# Altium footprint library ROV_Voltage_Switch.PcbLib: 24 footprints (part 2 of 2)
Each footprint in its own frame and in the unit in brackets; x right, y up, seen from the top. Pads: shape width x height; smd on the part's side, far side on the other; paste and mask are expansions set on the pad; w line width, h text height; cw(c..) or ccw(c..) is an arc to the next point about the centre after c.
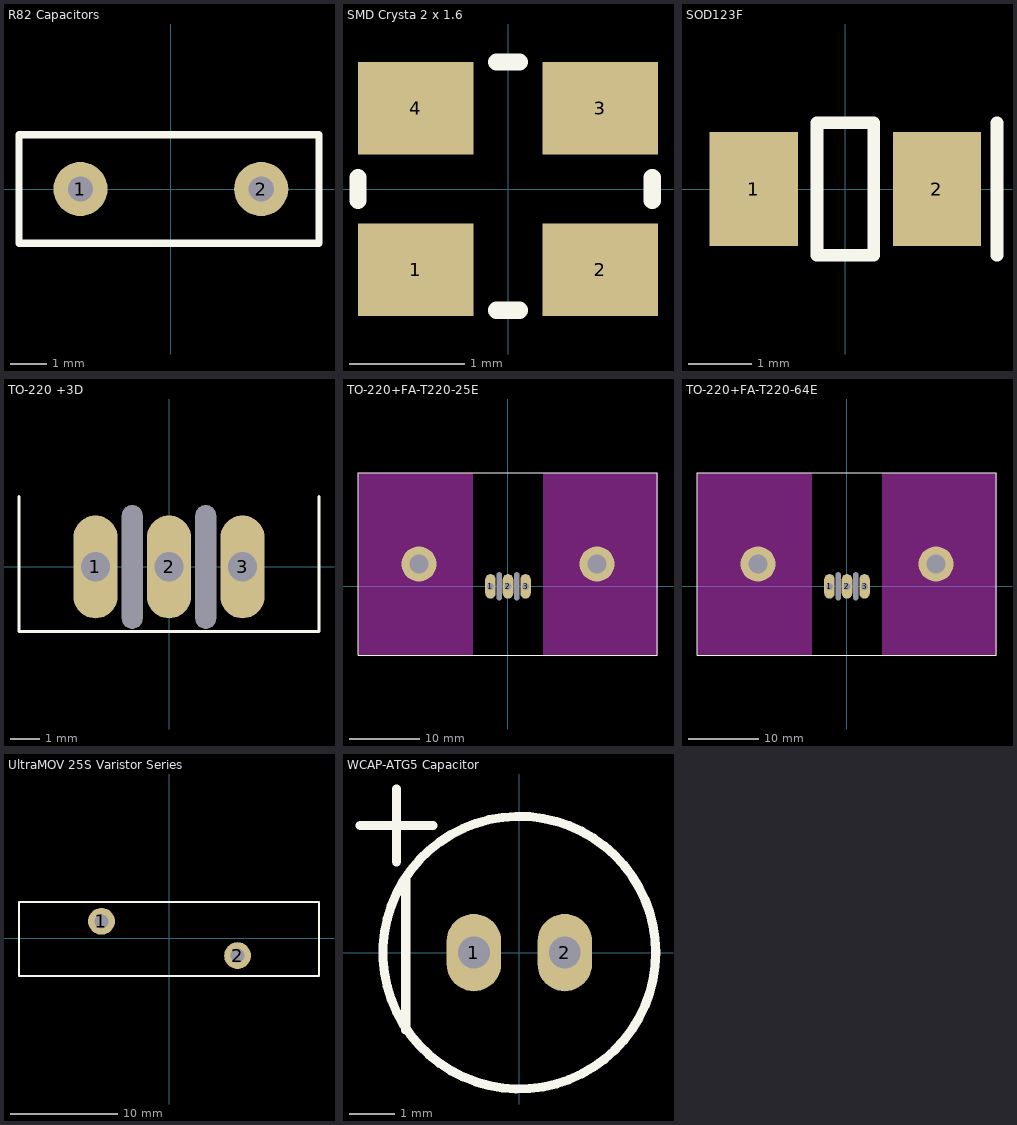
[diagram p1: the footprints below, top view; thin cyan lines are the x and y axes]

## R82 Capacitors [mm]
pads (2):
  round 1.5 hole 0.7: 1(-2.5,0) 2(2.5,0)
Top Overlay:
  lines w0.2: -4.2,-1.5 -4.2,1.5 4.1,1.5 4.1,-1.5 -4.2,-1.5
3D body: height 1.27, standoff 0, extent -3.6,-1.25 3.6,1.25

## SMD Crysta 2 x 1.6 [mm]
pads (4):
  rect 1x0.8 smd: 1(-0.8,-0.7) 2(0.8,-0.7) 3(0.8,0.7) 4(-0.8,0.7)
Top Overlay:
  lines w0.15: -1.3,-0.1 -1.3,0.1 ; -0.1,-1.05 0.1,-1.05 ; -0.1,1.1 0.1,1.1 ; 1.25,-0.1 1.25,0.1
3D body: height 0.7, standoff 0, extent -1,-0.8 1,0.8

## SOD123F [mm] "Diode Case"
height 1.1
pads (2):
  rect 1.4x1.8 smd: 1(-1.45,0) 2(1.45,0)
Top Overlay:
  lines w0.2: 2.4,-1.05 2.4,1.05 ; -0.45,-1.05 0.45,-1.05 0.45,1.05 -0.45,1.05 -0.45,-1.05
3D body "User Library-SOD123F.STEP": height 1.2, standoff -0.01, extent -1.9,-0.85 1.85,0.85

## TO-220 +3D [mm]
pads (5):
  oval 1.5x3.5 hole 1: 1(-2.5,0) 2(0,0) 3(2.5,0)
  round 0 hole 0.7 slot 4.2 at 90 deg unplated: ""(-1.25,0) ""(1.25,0)
Top Overlay:
  lines w0.1: -5.1,2.4 -5.1,-2.2 5.1,-2.2 5.1,2.4
3D body "User Library-TO-220-1.STEP": height 20.5, standoff -8.28, extent -4.955,-2.1 4.955,2.4

## TO-220+FA-T220-25E [mm]
pads (7):
  oval 1.5x3.5 hole 1: 1(-2.5,0) 2(0,0) 3(2.5,0)
  round 5 hole 2.7: ""(-12.7,3.2) ""(12.7,3.2)
  round 0 hole 0.7 slot 4 at 90 deg unplated: ""(-1.25,0) ""(1.25,0)
Top Layer keep-out:
  rectangle: -21.4,-9.8 -5,16.2
  region: 21.4,16.2 5,16.2 5,-9.8 21.4,-9.8
Top Overlay:
  lines w0.1: -21.4,-9.8 21.3,-9.8 21.3,16.2 -21.4,16.2 -21.4,-9.8
3D body "User Library-TO-220-1.STEP": height 20.5, standoff -8.28, extent -4.955,-2.1 4.955,2.4
3D body "FA-T220-25E.stp": height 3.51, standoff -25.43, extent -20.805,-9.246 20.8,15.646

## TO-220+FA-T220-64E [mm]
pads (7):
  oval 1.5x3.5 hole 1: 1(-2.5,0) 2(0,0) 3(2.5,0)
  round 5 hole 2.7: ""(-12.7,3.2) ""(12.7,3.2)
  round 0 hole 0.7 slot 4 at 90 deg unplated: ""(-1.25,0) ""(1.25,0)
Top Layer keep-out:
  rectangle: -21.4,-9.8 -5,16.2
  region: 21.4,16.2 5,16.2 5,-9.8 21.4,-9.8
Top Overlay:
  lines w0.1: -21.4,-9.8 21.3,-9.8 21.3,16.2 -21.4,16.2 -21.4,-9.8
3D body "User Library-OHMITE_FA-T220-64E.STEP": height 63.51, standoff -3.79, extent -20.803,-9.366 20.797,15.766
3D body "User Library-TO-220-1.STEP": height 20.5, standoff -8.28, extent -4.955,-2.1 4.955,2.4

## UltraMOV 25S Varistor Series [mm]
pads (2):
  round 2.5 hole 1.3: 1(-6.3,1.6) 2(6.4,-1.6)
Top Overlay:
  lines w0.2: -14,-3.5 -14,3.4 14,3.4 14,-3.5 -14,-3.5
3D body: height 32, standoff 0, extent -14,-3.5 14,3.4

## WCAP-ATG5 Capacitor [mm]
pads (2):
  oval 1.2x1.7 hole 0.7: 1(-1,0) 2(1,0)
Top Overlay:
  circle w0.2: c0,0 r3
  lines w0.2: -3.5,2.8 -1.9,2.8 ; -2.7,2 -2.7,3.6 ; -2.5,-1.7 -2.5,1.6
3D body: height 10, standoff 0, extent -2.5,-2.497 2.5,2.497